# Altium schematic symbol library RMCF2512JT1K80.SchLib: 2 symbols
Pins are listed as number, name and electrical type; pins without a type are passive.

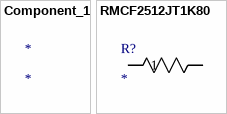
[diagram p0: symbols Component_1 to RMCF2512JT1K80]

## Component_1
designator *

## RMCF2512JT1K80
designator R?
No Description Available; Mfr_Name: Stackpole International
footprint RES_RMCF2512_STP
pins: 1, 2